# Altium footprint library PCB - CONNECTOR - MOLEX - MOLEX 0346910160.PcbLib: 1 footprints
Each footprint in its own frame and in the unit in brackets; x right, y up, seen from the top. Pads: shape width x height; smd on the part's side, far side on the other; paste and mask are expansions set on the pad; w line width, h text height; cw(c..) or ccw(c..) is an arc to the next point about the centre after c.
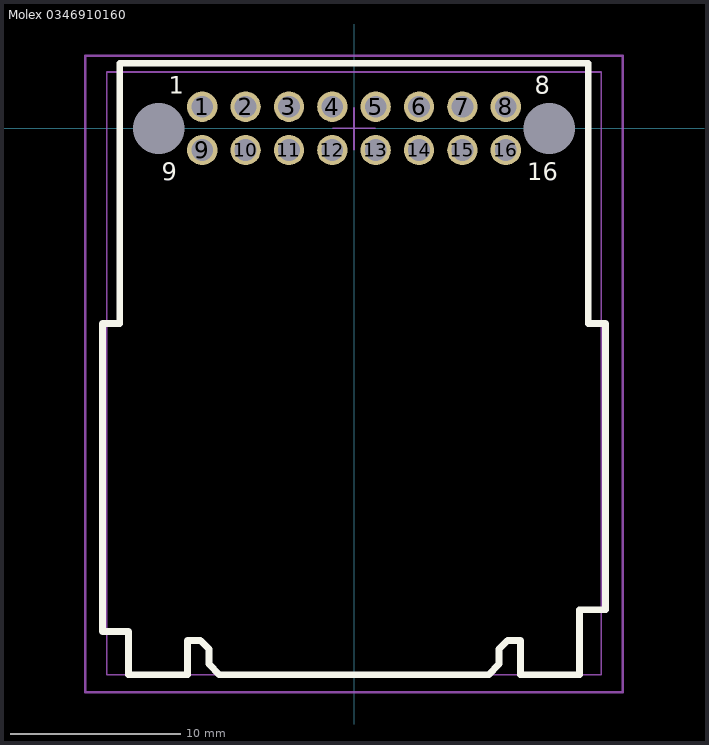
[diagram p0: the footprint, top view; thin cyan lines are the x and y axes]

## Molex 0346910160 [mil]
height 868.11
pads (18):
  round 70 hole 50 mask+3.94: 1(-350,50) 2(-250,50) 3(-150,50) 4(-50,50) 5(50,50) 6(150,50) 7(250,50) 8(350,50) 9(-350,-50) 10(-250,-50) 11(-150,-50) 12(-50,-50) 13(50,-50) 14(150,-50) 15(250,-50) 16(350,-50)
  round 0 hole 118.11 unplated mask+7.87: HOLE(-450,0) HOLE(450,0)
Top Overlay:
  lines w15.75: -580,-1160 -580,-450 -540,-450 -540,150 540,150 540,-450 580,-450 580,-1110 520,-1110 520,-1260 383.86,-1260 383.86,-1181.1 354.33,-1181.1 334.65,-1200.79 334.65,-1235.35 310,-1260 -310,-1260 -334.65,-1235.35 -334.65,-1200.79 -354.33,-1181.1 -383.86,-1181.1 -383.86,-1260 -520,-1260 -520,-1160 -580,-1160
  text "16" at 400.01,-119.99 h40
  text "8" at 416.67,80.01 h40
  text "9" at -443.33,-119.99 h40
  text "1" at -426.66,80.01 h40
Mechanical 13:
  lines w3.94: -570,-1260 -570,130 570,130 570,-1260 -570,-1260
Mechanical 15 (Mech15):
  lines w3.94: -49.21,0 0,0 ; 0,-49.21 0,0 ; 0,47.24 0,0 ; 49.21,0 0,0
  lines w5.91: -620,-1300 -620,167.32 620,167.32 620,-1300 -620,-1300
3D body "Molex - 346910160.stp": height 892.3, standoff -114.02, extent -573.26,-1255.39 569.26,129